# EAGLE library part ACOUSTICLIB_PMOD_HEADER (library LIBRARY)
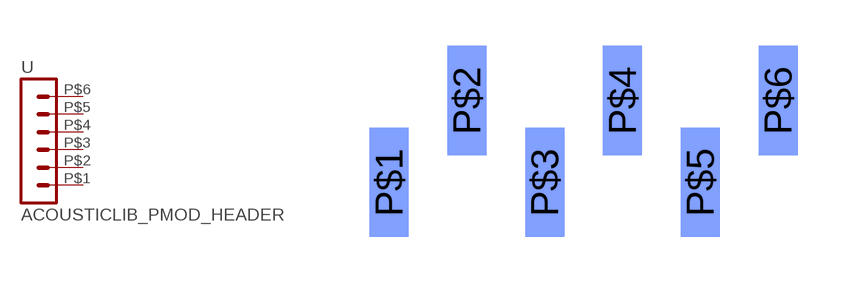
[diagram p6: symbol with the pads of ACOUSTICLIB_PMOD_HEADER; footprint ACOUSTICLIB_PMOD_HEADER]

Designator prefix -

## ACOUSTICLIB_PMOD_HEADER  [ACOUSTICLIB_PMOD_HEADER]
P$1  1  pas
P$2  2  pas
P$3  3  pas
P$4  4  pas
P$5  5  pas
P$6  6  pas

## Footprint ACOUSTICLIB_PMOD_HEADER (pad centres in mm)
smd 1.27 x 3.56 bottom: P$1 0,0; P$2 2.54,2.67; P$3 5.08,0; P$4 7.62,2.67; P$5 10.16,0; P$6 12.7,2.67